# Altium schematic symbol library WL18xxMOD.SchLib: 1 symbol
Pins are listed as number, name and electrical type; pins without a type are passive.

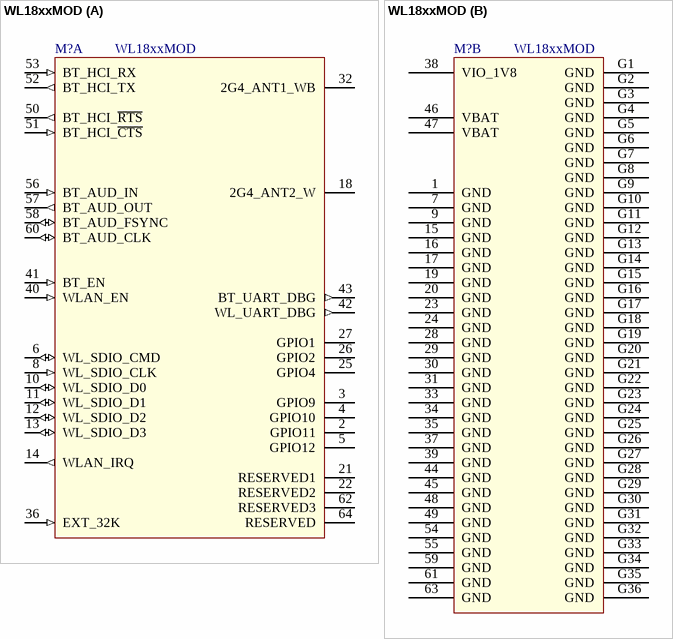
[diagram p0: symbol WL18xxMOD]

## WL18xxMOD
designator M?
footprint E-13.4X13.3-N100_0.75-TOP
part A pins: 2 GPIO11, 3 GPIO9, 4 GPIO10, 5 GPIO12, 6 WL_SDIO_CMD (io), 8 WL_SDIO_CLK (in), 10 WL_SDIO_D0 (io), 11 WL_SDIO_D1 (io), 12 WL_SDIO_D2 (io), 13 WL_SDIO_D3 (io), 14 WLAN_IRQ (out), 18 2G4_ANT2_W, 21 RESERVED1, 22 RESERVED2, 25 GPIO4, 26 GPIO2, 27 GPIO1, 32 2G4_ANT1_WB, 36 EXT_32K (in), 40 WLAN_EN (in), 41 BT_EN (in), 42 WL_UART_DBG (out), 43 BT_UART_DBG (out), 50 BT_HCI_~{RTS} (out), 51 BT_HCI_~{CTS} (in), 52 BT_HCI_TX (out), 53 BT_HCI_RX (in), 56 BT_AUD_IN (in), 57 BT_AUD_OUT (out), 58 BT_AUD_FSYNC (io), 60 BT_AUD_CLK (io), 62 RESERVED3, 64 RESERVED
part B pins: 1 GND (power), 7 GND (power), 9 GND (power), 15 GND (power), 16 GND (power), 17 GND (power), 19 GND (power), 20 GND (power), 23 GND (power), 24 GND (power), 28 GND (power), 29 GND (power), 30 GND (power), 31 GND (power), 33 GND (power), 34 GND (power), 35 GND (power), 37 GND (power), 38 VIO_1V8 (power), 39 GND (power), 44 GND (power), 45 GND (power), 46 VBAT (power), 47 VBAT (power), 48 GND (power), 49 GND (power), 54 GND (power), 55 GND (power), 59 GND (power), 61 GND (power), 63 GND (power), G1 GND (power), G2 GND (power), G3 GND (power), G4 GND (power), G5 GND (power), G6 GND (power), G7 GND (power), G8 GND (power), G9 GND (power), G10 GND (power), G11 GND (power), G12 GND (power), G13 GND (power), G14 GND (power), G15 GND (power), G16 GND (power), G17 GND (power), G18 GND (power), G19 GND (power), G20 GND (power), G21 GND (power), G22 GND (power), G23 GND (power), G24 GND (power), G25 GND (power), G26 GND (power), G27 GND (power), G28 GND (power), G29 GND (power), G30 GND (power), G31 GND (power), G32 GND (power), G33 GND (power), G34 GND (power), G35 GND (power), G36 GND (power)